# EAGLE library part AD5602BKSZ-2500RL7 (library AD5602BKSZ_DAC)
ANALOG DEVICES - AD5602BKSZ-2500RL7 - Digital to Analogue Converter, 8 bit, I2C, 2.7V to 5.5V, SC-70, 6 Pins Source: Datasheet <https://www.analog.com/media/en/technical-documentation/data-sheets/ad5602_5612_5622.pdf>
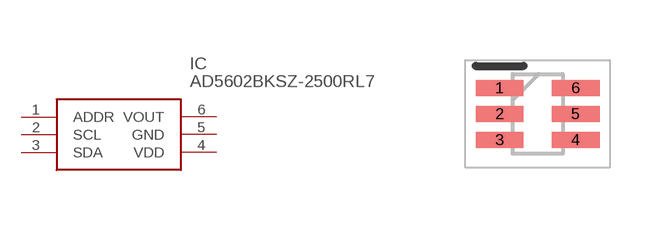
[diagram p0: symbol with the pads of SOT65P210X110-6N; footprint SOT65P210X110-6N]

Designator prefix IC

## AD5602BKSZ-2500RL7 (Description: ANALOG DEVICES - AD5602BKSZ-2500RL7 - Digital to Analogue Converter, 8 bit, I2C, 2.7V to 5.5V, SC-70, 6 Pins; Height: 1.1mm; Manufacturer_Name: Analog Devices; Manufacturer_Part_Number: AD5602BKSZ-2500RL7; Mouser_Part_Number: 584-AD5602BKSZ2500R7; Mouser_Price-Stock: https://www.mouser.co.uk/ProductDetail/Analog-Devices/AD5602BKSZ-2500RL7?qs=NmRFExCfTkEfdQDybOVnmw%3D%3D)  [SOT65P210X110-6N]
1  ADDR
2  SCL
3  SDA
4  VDD
5  GND
6  VOUT

## Footprint SOT65P210X110-6N (pad centres in mm)
KS-6 (SC70)_1
smd 1.2 x 0.4: 1 -0.95,0.65; 2 -0.95,0; 3 -0.95,-0.65; 4 0.95,-0.65; 5 0.95,0; 6 0.95,0.65